# Altium footprint library power.PcbLib: 1 footprints
Each footprint in its own frame and in the unit in brackets; x right, y up, seen from the top. Pads: shape width x height; smd on the part's side, far side on the other; paste and mask are expansions set on the pad; w line width, h text height; cw(c..) or ccw(c..) is an arc to the next point about the centre after c.
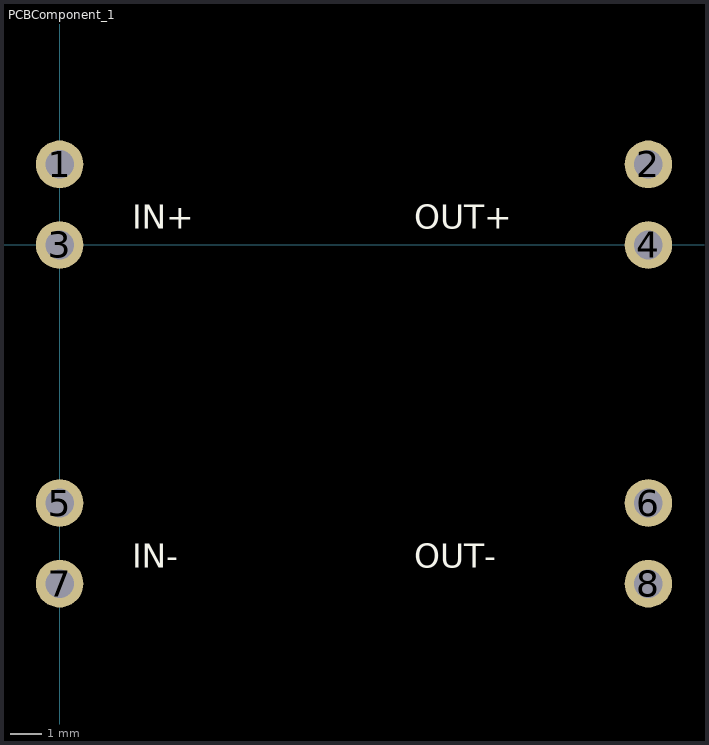
[diagram p0: the footprint, top view; thin cyan lines are the x and y axes]

## PCBComponent_1 [mm]
pads (8):
  round 1.5 hole 0.9: 1(0,2.54) 2(18.542,2.54) 3(0,0) 4(18.542,0) 5(0,-8.128) 6(18.542,-8.128) 7(0,-10.668) 8(18.542,-10.668)
Top Overlay:
  text "IN-" at 2.286,-10.16 h0.76
  text "IN+" at 2.286,0.508 h0.76
  text "OUT+" at 11.176,0.508 h0.76
  text "OUT-" at 11.176,-10.16 h0.76